# EAGLE library part PIC12F617 (library dan)
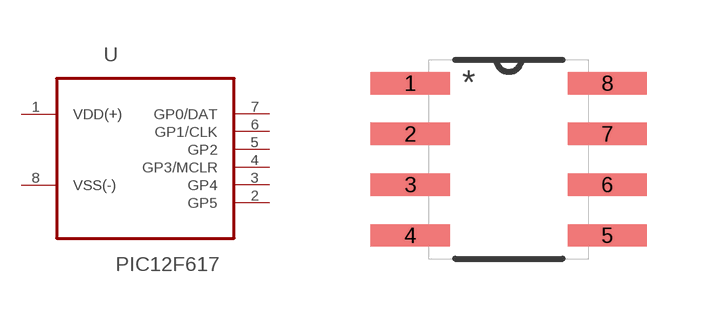
[diagram p4: symbol with the pads of SOIC-8; footprint SOIC-8]

Designator prefix -

## PIC12F617  [SOIC-8]
1  VDD(+)  pwr
2  GP5
3  GP4
4  GP3/MCLR
5  GP2
6  GP1/CLK
7  GP0/DAT
8  VSS(-)  pas

## Footprint SOIC-8 (pad centres in mm)
smd 1.981 x 0.559: 1 -2.464,1.905; 2 -2.464,0.635; 3 -2.464,-0.635; 4 -2.464,-1.905; 5 2.464,-1.905; 6 2.464,-0.635; 7 2.464,0.635; 8 2.464,1.905